# EAGLE library part CD404* (library bschulz)
CD404x - S-R Latch, Quad Characteristics: VCC: 3 ~ 18V Operating Temperature: -40°C to 85°C Digikey: CD4044 <https://www.digikey.com/en/products/detail/texas-instruments/CD4044BPWR/1691075>
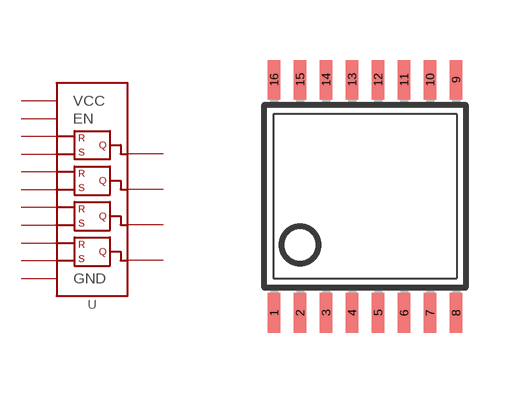
[diagram p156: symbol with the pads of TSSOP16; footprint TSSOP16]

Designator prefix U

## CD404, CD4043, CD4044 (DIGIKEY: 296-31499-1-ND; DISP: CD4044; MF: TI; MPN: CD4044BPWR)  [TSSOP16]
1  Q4  out
3  S1  in
4  R1  in
5  EN  in
6  R2  in
7  S2  in
8  GND  pwr
9  Q2  out
10  Q3  out
11  S3  in
12  R3  in
13  Q1  out
14  R4  in
15  S4  in
16  VCC  pwr

## Footprint TSSOP16 (pad centres in mm)
Thin Shrink Small Outline Plastic 16 http://www.maxim-ic.com .. MAX3223-MAX3243.pdf
smd 0.305 x 0.991: 1 -2.275,-2.918; 2 -1.625,-2.918; 3 -0.975,-2.918; 4 -0.325,-2.918; 5 0.325,-2.918; 6 0.975,-2.918; 7 1.625,-2.918; 8 2.275,-2.918; 9 2.275,2.918; 10 1.625,2.918; 11 0.975,2.918; 12 0.325,2.918; 13 -0.325,2.918; 14 -0.975,2.918; 15 -1.625,2.918; 16 -2.275,2.918